# Altium schematic symbol library PPPC042LFBN-RC-NRF24L01.SchLib: 1 symbol
Pins are listed as number, name and electrical type; pins without a type are passive.

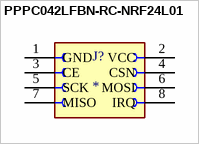
[diagram p0: symbol PPPC042LFBN-RC-NRF24L01]

## PPPC042LFBN-RC-NRF24L01
designator J?
8 Position Header Connector 0.100 (2.54mm) Through Hole Gold; MF: Sullins Connector Solutions; MP: PPPC042LFBN-RC; SnapEDA_Link: https://www.snapeda.com/parts/PPPC042LFBN-RC/Sullins+Connector+Solutions/view-part/?ref=snap; Package: None; Purchase-URL: https://pricing.snapeda.com/search/part/PPPC042LFBN-RC/?ref=eda; Price: None; Value: *; Check_prices: https://www.snapeda.com/parts/PPPC042LFBN-RC/Sullins+Connector+Solutions/view-part/?ref=eda; Availability: In Stock
pins: 1 GND, 2 VCC, 3 CE, 4 CSN, 5 SCK, 6 MOSI, 7 MISO, 8 IRQ